# Altium footprint library S29GL064S70TFI010.PcbLib: 1 footprints
Each footprint in its own frame and in the unit in brackets; x right, y up, seen from the top. Pads: shape width x height; smd on the part's side, far side on the other; paste and mask are expansions set on the pad; w line width, h text height; cw(c..) or ccw(c..) is an arc to the next point about the centre after c.
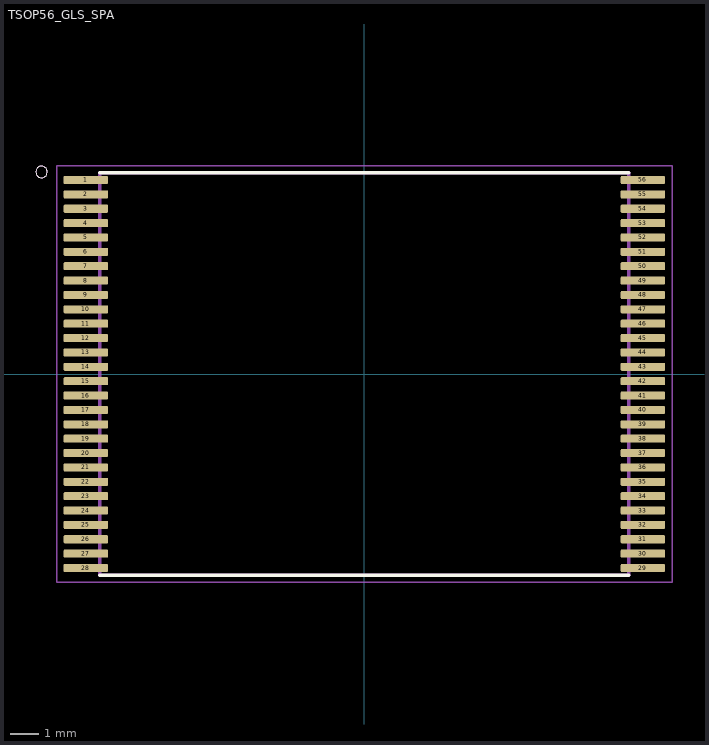
[diagram p0: the footprint, top view; thin cyan lines are the x and y axes]

## TSOP56_GLS_SPA [mm]
pads (56):
  rrect25% 1.54x0.28 smd: 1(-9.69,6.75) 2(-9.69,6.25) 3(-9.69,5.75) 4(-9.69,5.25) 5(-9.69,4.75) 6(-9.69,4.25) 7(-9.69,3.75) 8(-9.69,3.25) 9(-9.69,2.75) 10(-9.69,2.25) 11(-9.69,1.75) 12(-9.69,1.25) 13(-9.69,0.75) 14(-9.69,0.25) 15(-9.69,-0.25) 16(-9.69,-0.75) 17(-9.69,-1.25) 18(-9.69,-1.75) 19(-9.69,-2.25) 20(-9.69,-2.75) 21(-9.69,-3.25) 22(-9.69,-3.75) 23(-9.69,-4.25) 24(-9.69,-4.75) 25(-9.69,-5.25) 26(-9.69,-5.75) 27(-9.69,-6.25) 28(-9.69,-6.75) 29(9.69,-6.75) 30(9.69,-6.25) 31(9.69,-5.75) 32(9.69,-5.25) 33(9.69,-4.75) 34(9.69,-4.25) 35(9.69,-3.75) 36(9.69,-3.25) 37(9.69,-2.75) 38(9.69,-2.25) 39(9.69,-1.75) 40(9.69,-1.25) 41(9.69,-0.75) 42(9.69,-0.25) 43(9.69,0.25) 44(9.69,0.75) 45(9.69,1.25) 46(9.69,1.75) 47(9.69,2.25) 48(9.69,2.75) 49(9.69,3.25) 50(9.69,3.75) 51(9.69,4.25) 52(9.69,4.75) 53(9.69,5.25) 54(9.69,5.75) 55(9.69,6.25) 56(9.69,6.75)
Top Overlay:
  circle w0: c-11.23,7.03 r0.2
  lines w0.127: -9.2,-7 9.2,-7 ; -9.2,7 9.2,7
Mechanical 13:
  circle w0: c-11.23,7.03 r0.2
  lines w0.127: -9.2,-7 9.2,-7 9.2,7 -9.2,7 -9.2,-7
Mechanical 15:
  lines w0.05: -10.71,-7.25 10.71,-7.25 10.71,7.25 -10.71,7.25 -10.71,-7.25
3D body "S29GL064S80TFIV20.stp": height 1.2, standoff 0, extent -10,-7 10,7